# Altium schematic symbol library SC1510-A4.SchLib: 1 symbol
Pins are listed as number, name and electrical type; pins without a type are passive.

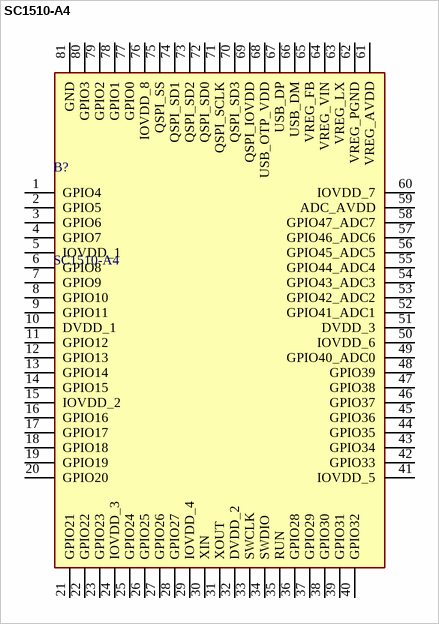
[diagram p0: symbol SC1510-A4]

## SC1510-A4
designator B?
ARM Microcontrollers - MCU RP2350B 150MHz clock Dual Arm Cortex-M33 cores 520KB RAM 8KB on-chip QFN-80; Manufacturer_Name: RASPBERRY-PI; Geometry.Height: 0.9mm; Mouser Part Number: *; Mouser Price/Stock: *; Manufacturer_Part_Number: SC1510-A4; Datasheet Link: https://datasheets.raspberrypi.com/rp2350/rp2350-datasheet.pdf
footprint QFN40P1000X1000X90-81N-D
pins: 1 GPIO4, 2 GPIO5, 3 GPIO6, 4 GPIO7, 5 IOVDD_1, 6 GPIO8, 7 GPIO9, 8 GPIO10, 9 GPIO11, 10 DVDD_1, 11 GPIO12, 12 GPIO13, 13 GPIO14, 14 GPIO15, 15 IOVDD_2, 16 GPIO16, 17 GPIO17, 18 GPIO18, 19 GPIO19, 20 GPIO20, 21 GPIO21, 22 GPIO22, 23 GPIO23, 24 IOVDD_3, 25 GPIO24, 26 GPIO25, 27 GPIO26, 28 GPIO27, 29 IOVDD_4, 30 XIN, 31 XOUT, 32 DVDD_2, 33 SWCLK, 34 SWDIO, 35 RUN, 36 GPIO28, 37 GPIO29, 38 GPIO30, 39 GPIO31, 40 GPIO32, 41 IOVDD_5, 42 GPIO33, 43 GPIO34, 44 GPIO35, 45 GPIO36, 46 GPIO37, 47 GPIO38, 48 GPIO39, 49 GPIO40_ADC0, 50 IOVDD_6, 51 DVDD_3, 52 GPIO41_ADC1, 53 GPIO42_ADC2, 54 GPIO43_ADC3, 55 GPIO44_ADC4, 56 GPIO45_ADC5, 57 GPIO46_ADC6, 58 GPIO47_ADC7, 59 ADC_AVDD, 60 IOVDD_7, 61 VREG_AVDD, 62 VREG_PGND, 63 VREG_LX, 64 VREG_VIN, 65 VREG_FB, 66 USB_DM, 67 USB_DP, 68 USB_OTP_VDD, 69 QSPI_IOVDD, 70 QSPI_SD3, 71 QSPI_SCLK, 72 QSPI_SD0, 73 QSPI_SD2, 74 QSPI_SD1, 75 QSPI_SS, 76 IOVDD_8, 77 GPIO0, 78 GPIO1, 79 GPIO2, 80 GPIO3, 81 GND